# Altium schematic symbol library Winbond.SchLib: 2 symbols
Pins are listed as number, name and electrical type; pins without a type are passive.

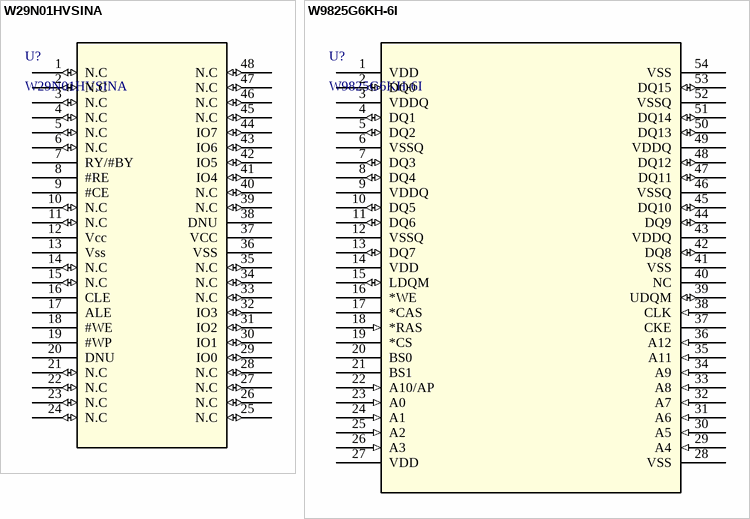
[diagram p0: symbols W29N01HVSINA to W9825G6KH-6I]

## W29N01HVSINA
designator U?
W29N01HVxxNA / 1G-BIT 3.3V / NAND FLASH MEMORY; Mfr_Name: Winbond; Copyright: Copyright (C) 2022 Ultra Librarian. All rights reserved.; Manufacturer_Part_Number: W29N01HVSINA; RefDes: RefDes; Type: DEV
footprint TSOP_HVSINA_WIN
pins: 1 N.C (io), 2 N.C (io), 3 N.C (io), 4 N.C (io), 5 N.C (io), 6 N.C (io), 7 RY/#BY, 8 #RE, 9 #CE, 10 N.C (io), 11 N.C (io), 12 Vcc (power), 13 Vss, 14 N.C (io), 15 N.C (io), 16 CLE, 17 ALE, 18 #WE, 19 #WP, 20 DNU, 21 N.C (io), 22 N.C (io), 23 N.C (io), 24 N.C (io), 25 N.C (io), 26 N.C (io), 27 N.C (io), 28 N.C (io), 29 IO0 (io), 30 IO1 (io), 31 IO2 (io), 32 IO3 (io), 33 N.C (io), 34 N.C (io), 35 N.C (io), 36 VSS, 37 VCC (power), 38 DNU, 39 N.C (io), 40 N.C (io), 41 IO4 (io), 42 IO5 (io), 43 IO6 (io), 44 IO7 (io), 45 N.C (io), 46 N.C (io), 47 N.C (io), 48 N.C (io)

## W9825G6KH-6I
designator U?
4 M X 4 BANKS X 16 BITS SDRAM; Mfr_Name: Winbond; Manufacturer_Part_Number: W9825G6JH-6I; Copyright: Copyright (C) 2022 Ultra Librarian. All rights reserved.; RefDes: RefDes; Type: DEV
footprint WIN_TSOP-54_WIN
footprint WIN_TSOP-54_WIN-L
footprint WIN_TSOP-54_WIN-M
pins: 1 VDD (power), 2 DQ0 (io), 3 VDDQ (power), 4 DQ1 (io), 5 DQ2 (io), 6 VSSQ (power), 7 DQ3 (io), 8 DQ4 (io), 9 VDDQ (power), 10 DQ5 (io), 11 DQ6 (io), 12 VSSQ (power), 13 DQ7 (io), 14 VDD (power), 15 LDQM (io), 16 *WE, 17 *CAS, 18 *RAS (in), 19 *CS, 20 BS0, 21 BS1, 22 A10/AP (in), 23 A0 (in), 24 A1 (in), 25 A2 (in), 26 A3 (in), 27 VDD (power), 28 VSS (power), 29 A4 (in), 30 A5 (in), 31 A6 (in), 32 A7 (in), 33 A8 (in), 34 A9 (in), 35 A11 (in), 36 A12 (in), 37 CKE, 38 CLK (in), 39 UDQM (io), 40 NC, 41 VSS (power), 42 DQ8 (io), 43 VDDQ (power), 44 DQ9 (io), 45 DQ10 (io), 46 VSSQ (power), 47 DQ11 (io), 48 DQ12 (io), 49 VDDQ (power), 50 DQ13 (io), 51 DQ14 (io), 52 VSSQ (power), 53 DQ15 (io), 54 VSS (power)